# EAGLE library part ADCLK948 (library cdp)
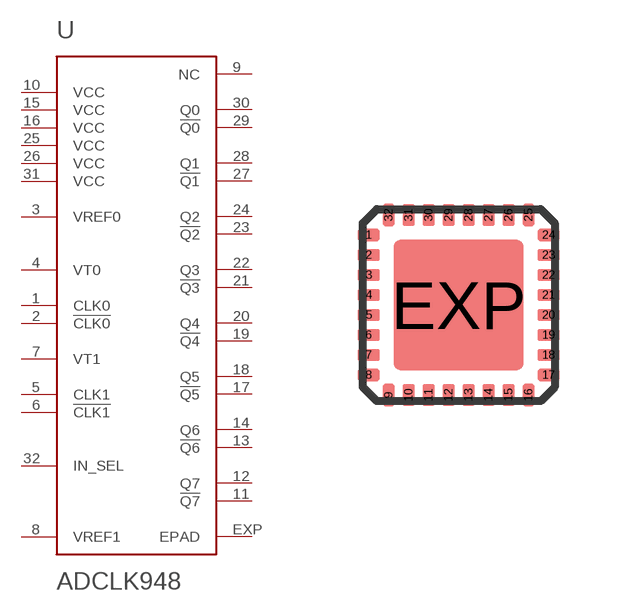
[diagram p30: symbol with the pads of LFCSP32; footprint LFCSP32]

Designator prefix U

## ADCLK948  [LFCSP32]
1  CLK0
2  !CLK0
3  VREF0
4  VT0
5  CLK1
6  !CLK1
7  VT1
8  VREF1
9  NC
10  VCC
11  !Q7
12  Q7
13  !Q6
14  Q6
15  VCC
16  VCC
17  !Q5
18  Q5
19  !Q4
20  Q4
21  !Q3
22  Q3
23  !Q2
24  Q2
25  VCC
26  VCC
27  !Q1
28  Q1
29  !Q0
30  Q0
31  VCC
32  IN_SEL
EXP  EPAD

## Footprint LFCSP32 (pad centres in mm)
32-Lead Frame Chip Scale Package [LFCSP_VQ] 5 mm × 5 mm Very Thin Quad (CP-32-3 COMPLIANT TO JEDEC STANDARDS MO-220-VHHD-2 Source: http://www.analog.com/UploadedFiles/Data_Sheets/762180021AD7142_42_1_prd.pdf
smd 0.55 x 0.3: 1 -2.25,1.75; 2 -2.25,1.25; 3 -2.25,0.75; 4 -2.25,0.25; 5 -2.25,-0.25; 6 -2.25,-0.75; 7 -2.25,-1.25; 8 -2.25,-1.75; 17 2.25,-1.75; 18 2.25,-1.25; 19 2.25,-0.75; 20 2.25,-0.25; 21 2.25,0.25; 22 2.25,0.75; 23 2.25,1.25; 24 2.25,1.75
smd 0.3 x 0.55: 9 -1.75,-2.25; 10 -1.25,-2.25; 11 -0.75,-2.25; 12 -0.25,-2.25; 13 0.25,-2.25; 14 0.75,-2.25; 15 1.25,-2.25; 16 1.75,-2.25; 25 1.75,2.25; 26 1.25,2.25; 27 0.75,2.25; 28 0.25,2.25; 29 -0.25,2.25; 30 -0.75,2.25; 31 -1.25,2.25; 32 -1.75,2.25
smd 3.25 x 3.25: EXP 0,0